# EAGLE library part AVRISP (library SideAvrISP)
AVR ISP HEADER Standard 6 pin header for AVR programming
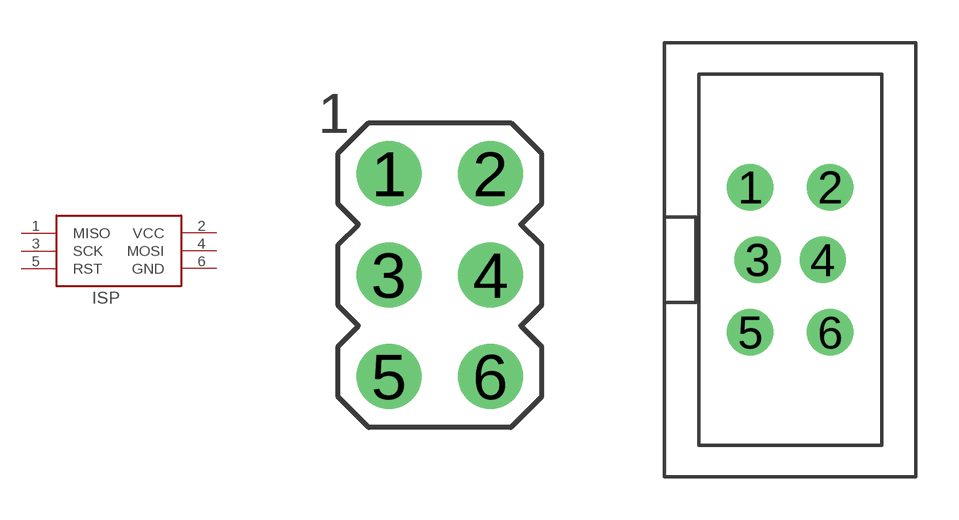
[diagram p0: symbol with the pads of AVRISP; footprints AVRISP, AVRISP-BOX]

Designator prefix ISP

## AVRISP-6  [AVRISP]
1  MISO  in
2  VCC  pwr
3  SCK  out
4  MOSI  out
5  RST  out
6  GND  pwr

## AVRISP-BOX  [AVRISP-BOX]
Pads as for AVRISP

## AVRISP  [SIDEISP]
P1  MISO  in
P2  VCC  pwr
P3  SCK  out
P4  MOSI  out
P5  RST  out
P6  GND  pwr

## Footprint AVRISP (pad centres in mm)
drill 0.9 pad 1.626: 1 -1.27,2.54; 2 1.27,2.54; 3 -1.27,0; 4 1.27,0; 5 -1.27,-2.54; 6 1.27,-2.54

## Footprint AVRISP-BOX (pad centres in mm)
drill 0.9 pad 1.626: 1 -1.397,2.54; 2 1.397,2.54; 3 -1.143,0; 4 1.143,0; 5 -1.397,-2.54; 6 1.397,-2.54

## Footprint SIDEISP (pad centres in mm)
smd 1.27 x 0.635: P1 0,2.54; P3 0,0; P5 0,-2.54
smd 1.27 x 0.635 bottom: P2 0,2.54; P4 0,0; P6 0,-2.54